# EAGLE library part TPS62086 (library regulators)
Buck Switching Regulator IC Positive Fixed 3.3V 1 Output 3A 7-VFDFN
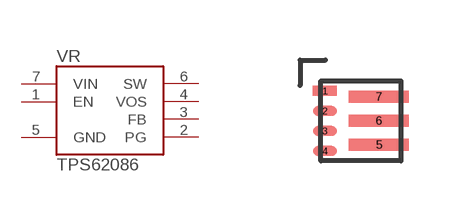
[diagram p0: symbol with the pads of RLT0007A; footprint RLT0007A]

Designator prefix VR

## TPS62086 (DIGIKEY: 296-40831-1-ND)  [RLT0007A]
1  EN
2  PG
3  FB
4  VOS
5  GND
6  SW
7  VIN

## Footprint RLT0007A (pad centres in mm)
smd 0.6 x 0.25: 1 -0.9,0.75; 2 -0.9,0.25; 3 -0.9,-0.25; 4 -0.9,-0.75
smd 1.5 x 0.3: 5 0.45,-0.6; 6 0.45,0; 7 0.45,0.6